# EAGLE library part AS3320 (library analog-audio-chips)
Voltage Controlled Filter capable of 4th order LP, BP or HP designed by famous audio chips designer Curtis Electronics.
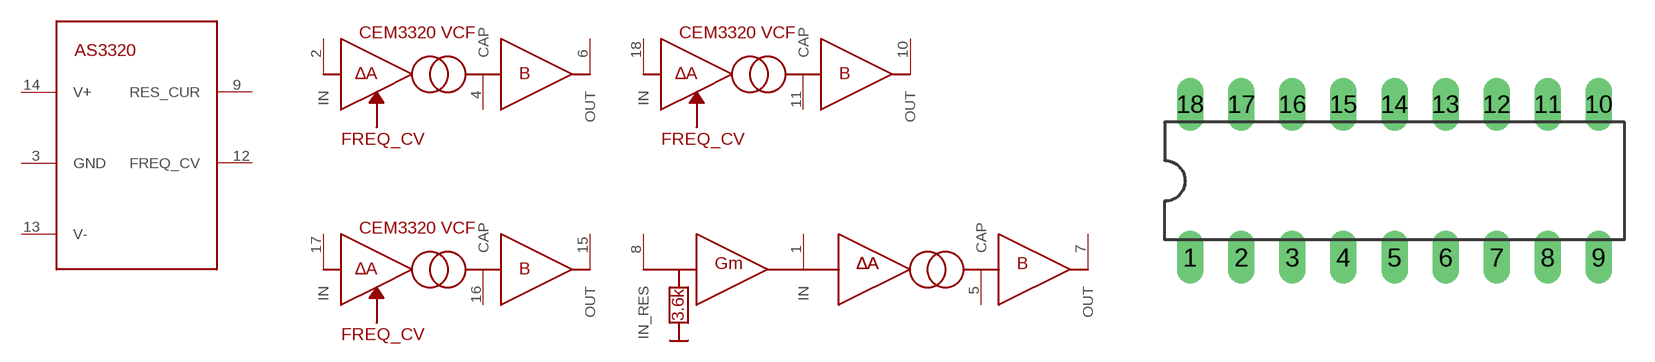
[diagram p8: symbol with the pads of DIL18; footprint DIL18]

Designator prefix -; gates POW$1=AS3320_POWER OTA$3=AS3320_OTA OTA$2=AS3320_OTA OTA$4=AS3320_OTA OTA$1=AS3320_RES

## AS3320  [DIL18]
1  OTA$1:IN
2  OTA$2:IN
3  POW$1:GND
4  OTA$2:CAP
5  OTA$1:CAP
6  OTA$2:OUT
7  OTA$1:OUT
8  OTA$1:IN_RES
9  POW$1:RES_CUR
10  OTA$3:OUT
11  OTA$3:CAP
12  POW$1:FREQ_CV
13  POW$1:V-
14  POW$1:V+
15  OTA$4:OUT
16  OTA$4:CAP
17  OTA$4:IN
18  OTA$3:IN

## Footprint DIL18 (pad centres in mm)
Dual In Line Package
drill 0.813 long: 1 -10.16,-3.81; 2 -7.62,-3.81; 3 -5.08,-3.81; 4 -2.54,-3.81; 5 0,-3.81; 6 2.54,-3.81; 7 5.08,-3.81; 8 7.62,-3.81; 9 10.16,-3.81; 10 10.16,3.81; 11 7.62,3.81; 12 5.08,3.81; 13 2.54,3.81; 14 0,3.81; 15 -2.54,3.81; 16 -5.08,3.81; 17 -7.62,3.81; 18 -10.16,3.81